# EAGLE library part NIXIE-14 (library IV-3 Lib)
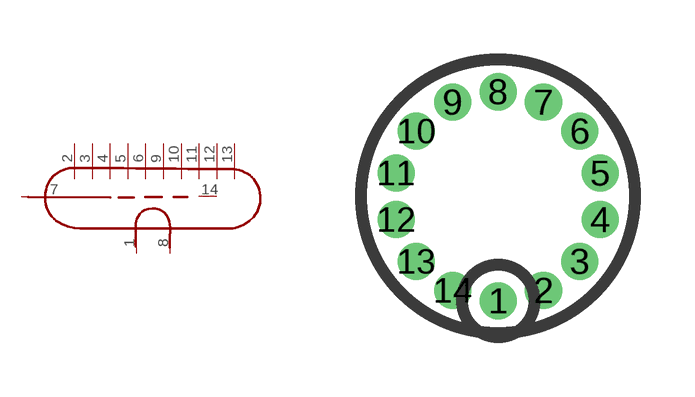
[diagram p0: symbol with the pads of NIXIE-14; footprint NIXIE-14]

Designator prefix -

## NIXIE-14  [NIXIE-14]
1  P$13
2  P$1
3  P$2
4  P$3
5  P$4
6  P$5
7  P$11
8  P$12
9  P$6
10  P$7
11  P$8
12  P$9
13  P$10
14  P$14

## Footprint NIXIE-14 (pad centres in mm)
Eagle SCR autogenerated 14 pin Nixie socket
drill 0.42: 1 0,-2.616; 2 1.135,-2.357; 3 2.045,-1.631; 4 2.55,-0.582; 5 2.55,0.582; 6 2.045,1.631; 7 1.135,2.357; 8 0,2.616; 9 -1.135,2.357; 10 -2.045,1.631; 11 -2.55,0.582; 12 -2.55,-0.582; 13 -2.045,-1.631; 14 -1.135,-2.357